# Altium footprint library RESAD1200W80L900D350.PcbLib: 1 footprints
Each footprint in its own frame and in the unit in brackets; x right, y up, seen from the top. Pads: shape width x height; smd on the part's side, far side on the other; paste and mask are expansions set on the pad; w line width, h text height; cw(c..) or ccw(c..) is an arc to the next point about the centre after c.
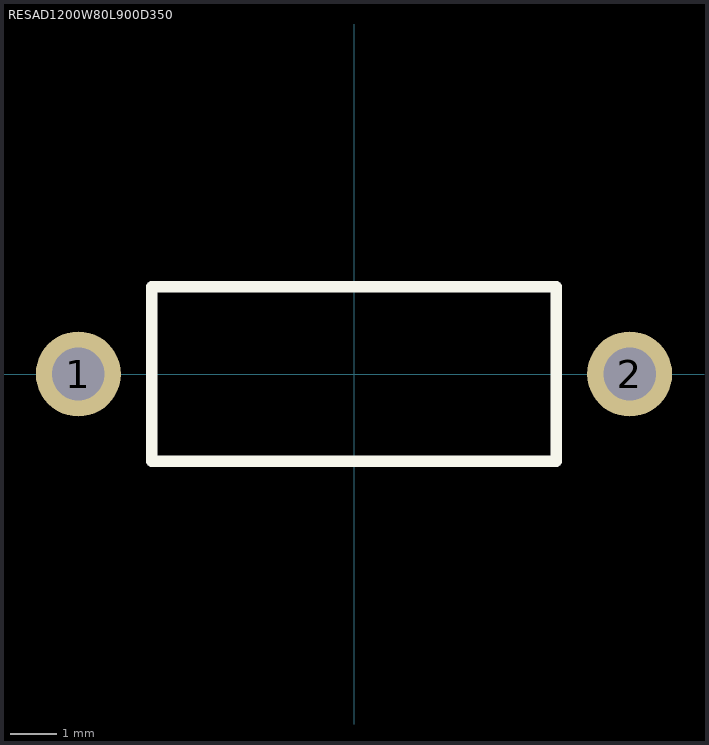
[diagram p0: the footprint, top view; thin cyan lines are the x and y axes]

## RESAD1200W80L900D350 [mm] "Resistor Lead Spacing 12mm Len 9mm Dia 3.5mm"
height 3.5
pads (2):
  round 1.85 hole 1.15: 1(-6,0) 2(6,0)
Top Overlay:
  lines w0.254: -4.4,-1.9 4.4,-1.9 4.4,1.9 -4.4,1.9 -4.4,-1.9
3D body: height 5, standoff 1, extent -4.5,-2 4.5,2